# Altium schematic symbol library 0603-FERRITE-600Ohm.SchLib: 1 symbol
Pins are listed as number, name and electrical type; pins without a type are passive.

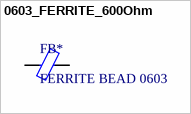
[diagram p0: symbol 0603_FERRITE_600Ohm]

## 0603_FERRITE_600Ohm
designator FB*, comment FERRITE BEAD 0603
Ferrite Bead, 0603, 600Ohm @ 100MHz, 200mOhm DC; Supplier 1: Digi-Key; Supplier 2: Newark; Supplier Part Number 1: MH1608-601YCT-ND; Supplier Part Number 2: 87W5975
footprint INDC1608X10N (Chip Inductor, 2-Leads, Body 1.60x0.80mm, IPC Medium Density)
pins: 1, 2